# Altium footprint library RELAY.PcbLib: 2 footprints
Each footprint in its own frame and in the unit in brackets; x right, y up, seen from the top. Pads: shape width x height; smd on the part's side, far side on the other; paste and mask are expansions set on the pad; w line width, h text height; cw(c..) or ccw(c..) is an arc to the next point about the centre after c.
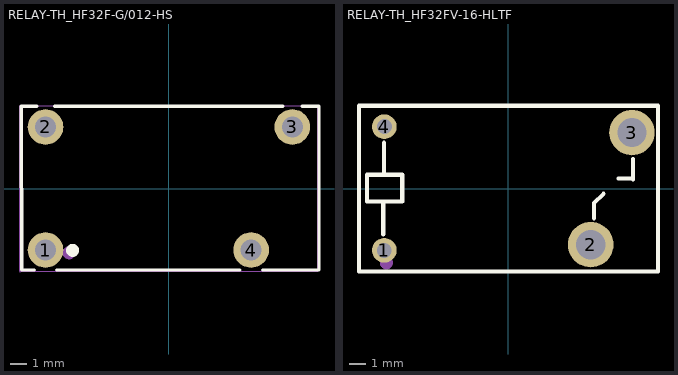
[diagram p0: the footprints below, top view; thin cyan lines are the x and y axes]

## RELAY-TH_HF32F-G/012-HS [mm]
pads (4):
  round 2.2 hole 1.3 paste+0 mask+0.05: 1(-7.62,-3.8) 2(-7.62,3.8) 3(7.62,3.8) 4(5.08,-3.8)
Top Overlay:
  circle w0.4: c-5.95,-3.82 r0.2
  lines w0.2: -9.11,-5.04 -8.313,-5.03 ; -9.091,-5.03 -9.12,5.08 -8.17,5.08 ; -7.07,5.08 7.024,5.08 ; -6.927,-5.03 4.387,-5.03 ; 5.773,-5.03 9.27,-5.03 9.27,5.08 8.216,5.08
Mechanical 15:
  region: -9.14,-5.1 -9.14,-5.125 -9.175,-5.16 -9.225,-5.16 -9.26,-5.125 -9.26,-5.1 -9.26,-5.075 -9.225,-5.04 -9.175,-5.04 -9.14,-5.075
  region: -7.845,-3.585 -7.395,-3.585 -7.395,-4.035 -7.845,-4.035
  region: -7.845,4.015 -7.395,4.015 -7.395,3.565 -7.845,3.565
  region: 7.47,4.2 7.77,4.2 7.77,3.4 7.47,3.4
  region: 4.93,-3.4 5.23,-3.4 5.23,-4.2 4.93,-4.2
  lines w0.051: -9.2,-5.1 -9.2,5.1 9.2,5.1 9.2,-5.1 -9.2,-5.1
Mechanical 29:
  circle w0.4: c-6.17,-3.97 r0.2
  text "'.Designator'" at -3.124,-0.153 h1.52
3D body "HF32FV.stp": height 15.82, standoff -3.48, extent -9.048,-5.044 9.352,5.156

## RELAY-TH_HF32FV-16-HLTF [mm]
pads (4):
  round 1.524 hole 0.914 copper offset 0,0 paste+0 mask+0.05: 1(-7.62,-3.805) 4(-7.62,3.805)
  round 2.8 hole 1.8 copper offset 0,0 paste+0 mask+0.05: 2(5.08,-3.455) 3(7.62,3.445)
Top Overlay:
  lines w0.254: -7.69,-2.818 -7.69,-0.895 ; -7.64,0.895 -7.64,2.812 ; 5.29,-1.831 5.29,-0.945 5.29,-0.895 5.86,-0.325 ; 6.8,0.615 7.69,0.615 7.69,0.565 7.69,1.814 ; -9.18,-5.105 -9.18,5.095 9.22,5.095 9.22,-5.105 -9.18,-5.105 ; -8.68,-0.795 -8.68,0.845 -6.52,0.845 -6.52,-0.795 -8.68,-0.795
Mechanical 15:
  region: 7.47,2.695 7.47,4.195 7.77,4.195 7.77,2.695
  region: 4.96,-4.205 4.96,-2.705 5.2,-2.705 5.2,-4.205
  region: -7.845,-3.58 -7.395,-3.58 -7.395,-4.03 -7.845,-4.03
  region: -7.845,4.03 -7.395,4.03 -7.395,3.58 -7.845,3.58
  region: -9.12,-5.1 -9.12,-5.125 -9.155,-5.16 -9.205,-5.16 -9.24,-5.125 -9.24,-5.1 -9.24,-5.075 -9.205,-5.04 -9.155,-5.04 -9.12,-5.075
  lines w0.051: -9.18,-5.1 9.22,-5.1 9.22,5.1 -9.18,5.1 -9.18,-5.1
Mechanical 29:
  circle w0.4: c-7.493,-4.572 r0.2
  circle w0.2: c-8.001,-3.556 r0.1
  text "'.Designator'" at -7.036,-0.229 h1.52
3D body "HF32FV.stp": height 15.82, standoff -3.48, extent -9.18,-5.1 9.22,5.1